# Altium footprint library FlexyPin.PcbLib: 1 footprints
Each footprint in its own frame and in the unit in brackets; x right, y up, seen from the top. Pads: shape width x height; smd on the part's side, far side on the other; paste and mask are expansions set on the pad; w line width, h text height; cw(c..) or ccw(c..) is an arc to the next point about the centre after c.
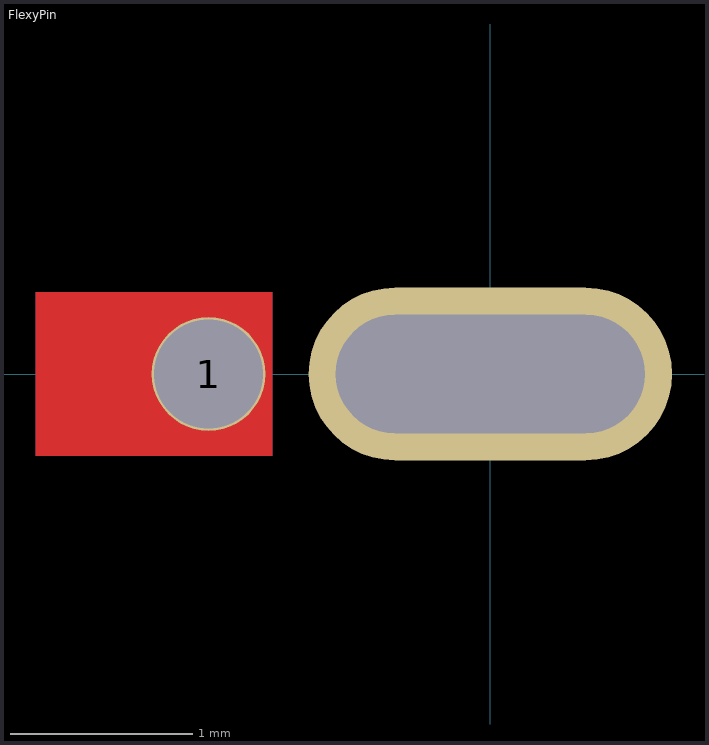
[diagram p0: the footprint, top view; thin cyan lines are the x and y axes]

## FlexyPin [mm]
pads (2):
  round 0.625 hole 0.6: 1(-1.55,0)
  oval 2x0.95 hole 0.65 slot 1.7 at 0 deg: ""(0,0)
Top Layer:
  region: -2.5,0.45 -2.5,-0.45 -1.2,-0.45 -1.2,0.45
Bottom Layer:
  region: -2.5,0.45 -2.5,-0.45 -1.2,-0.45 -1.2,0.45
3D body "flexypin.step": height 4.07, standoff -6.32, extent -3.593,-0.2 0.872,0.2